# EAGLE library part AT86RF233 (library mbed-HDK)
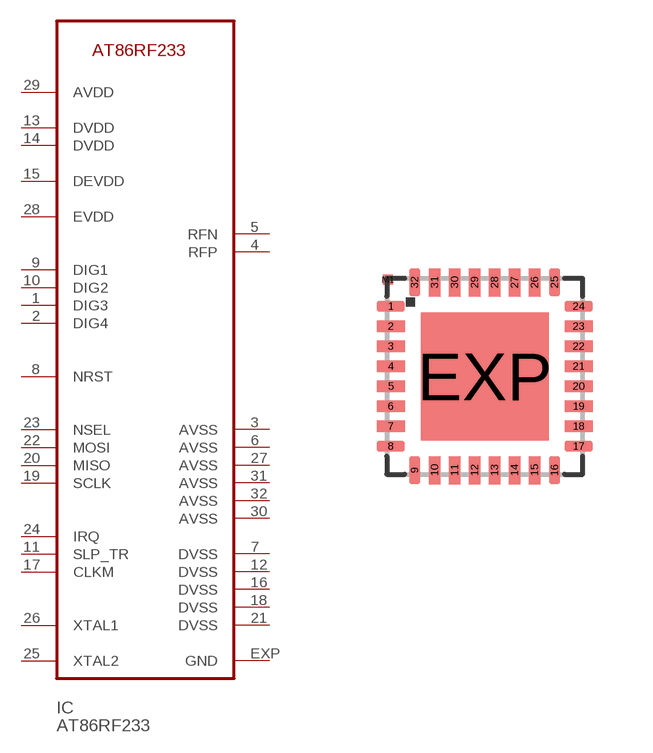
[diagram p37: symbol with the pads of HVQFN33; footprint HVQFN33]

Designator prefix IC

## AT86RF233  [HVQFN33]
1  DIG3
2  DIG4
3  AVSS
4  RFP
5  RFN
6  AVSS
7  DVSS
8  NRST
9  DIG1
10  DIG2
11  SLP_TR
12  DVSS
13  DVDD
14  DVDD
15  DEVDD
16  DVSS
17  CLKM
18  DVSS
19  SCLK
20  MISO
21  DVSS
22  MOSI
23  NSEL
24  IRQ
25  XTAL2
26  XTAL1
27  AVSS
28  EVDD
29  AVDD
30  AVSS
31  AVSS
32  AVSS
EXP  GND

## Footprint HVQFN33 (pad centres in mm)
HVQFN32 (SOT617-3) 5 x 5 x .85 mm, Pitch 0.5mm Source: http://www.semiconductors.philips.com/acrobat_download/datasheets/TDA9885_TDA9886_2.pdf
smd 0.7 x 0.28: 1 -2.35,1.75; 2 -2.35,1.25; 3 -2.35,0.75; 4 -2.35,0.25; 5 -2.35,-0.25; 6 -2.35,-0.75; 7 -2.35,-1.25; 8 -2.35,-1.75; 17 2.35,-1.75; 18 2.35,-1.25; 19 2.35,-0.75; 20 2.35,-0.25; 21 2.35,0.25; 22 2.35,0.75; 23 2.35,1.25; 24 2.35,1.75
smd 0.28 x 0.7: 9 -1.75,-2.35; 10 -1.25,-2.35; 11 -0.75,-2.35; 12 -0.25,-2.35; 13 0.25,-2.35; 14 0.75,-2.35; 15 1.25,-2.35; 16 1.75,-2.35; 25 1.75,2.35; 26 1.25,2.35; 27 0.75,2.35; 28 0.25,2.35; 29 -0.25,2.35; 30 -0.75,2.35; 31 -1.25,2.35; 32 -1.75,2.35
smd 3.2 x 3.2: EXP 0,0
smd 0.25 x 0.25: M1 -2.415,2.415